# Altium footprint library Power.PcbLib: 8 footprints
Each footprint in its own frame and in the unit in brackets; x right, y up, seen from the top. Pads: shape width x height; smd on the part's side, far side on the other; paste and mask are expansions set on the pad; w line width, h text height; cw(c..) or ccw(c..) is an arc to the next point about the centre after c.
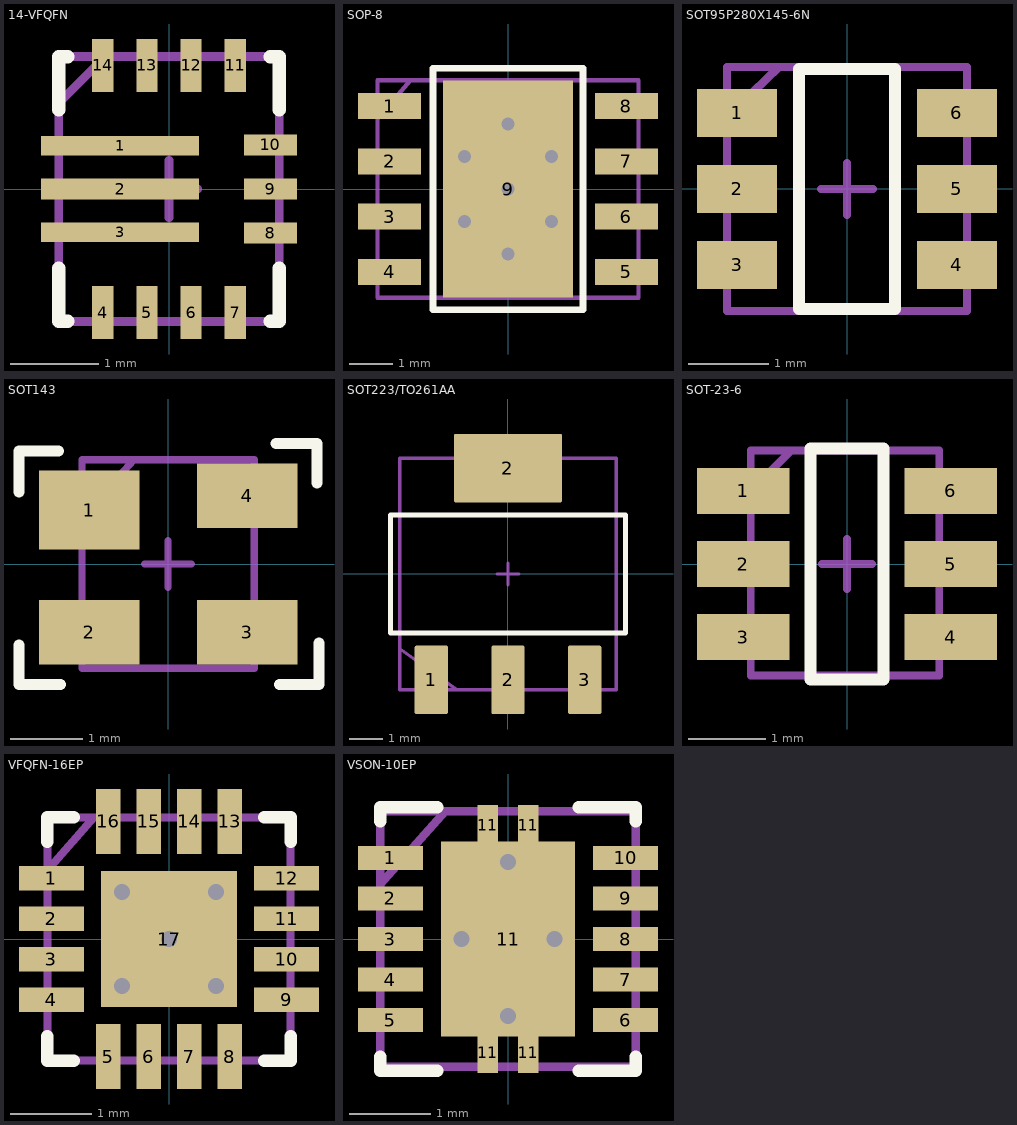
[diagram p0: the footprints below, top view; thin cyan lines are the x and y axes]

## 14-VFQFN [mm]
pads (14):
  rect 1.79x0.22 smd mask+0.05: 1(-0.555,0.49) 3(-0.555,-0.49)
  rect 1.79x0.24 smd mask+0.05: 2(-0.555,0)
  rect 0.24x0.6 smd mask+0.05: 4(-0.75,-1.4) 5(-0.25,-1.4) 6(0.25,-1.4) 7(0.75,-1.4) 11(0.75,1.4) 12(0.25,1.4) 13(-0.25,1.4) 14(-0.75,1.4)
  rect 0.6x0.24 smd mask+0.05: 8(1.15,-0.5) 9(1.15,0) 10(1.15,0.5)
Top Overlay:
  lines w0.153: -1.25,-0.9 -1.25,-1.5 -1.15,-1.5 ; -1.25,0.9 -1.25,1.5 -1.15,1.5 ; 1.15,-1.5 1.25,-1.5 1.25,-0.9 ; 1.15,1.5 1.25,1.5 1.25,0.9
  text "." at -1.947,0.428 h0.8
Top Assembly:
  lines w0.1: -1.25,0.975 -0.725,1.5 ; -1.25,-1.5 1.25,-1.5 1.25,1.5 -1.25,1.5 -1.25,-1.5
  text "'.Designator'" at -1.097,1.92 h0.8
Mechanical 15:
  lines w0.1: -0.325,0 0,0 ; 0,-0.325 0,0 ; 0,0.325 0,0 ; 0.325,0 0,0 ; -1.25,-1.5 1.25,-1.5 1.25,1.5 -1.25,1.5 -1.25,-1.5
3D body "TPS630250RNCT.STEP": height 0.99, standoff -0.01, extent -1.25,-1.5 1.25,1.5

## SOP-8 [mm] "TSOP, 8-Leads, Body 4,90x3,90mm, Pitch 1,27mm, Thermal Pad 4,00x2,00mm, IPC Medium Density"
height 1.35
pads (9):
  rect 1.45x0.6 smd: 1(-2.725,1.905) 2(-2.725,0.635) 3(-2.725,-0.635) 4(-2.725,-1.905) 5(2.725,-1.905) 6(2.725,-0.635) 7(2.725,0.635) 8(2.725,1.905)
  rect 3x5 smd: 9(0,0)
via 0,0 diameter 0.65 hole 0.3
via -1,-0.75 diameter 0.65 hole 0.3
via 1,-0.75 diameter 0.65 hole 0.3
via -1,0.75 diameter 0.65 hole 0.3
via 1,0.75 diameter 0.65 hole 0.3
via 0,1.5 diameter 0.65 hole 0.3
via 0,-1.5 diameter 0.65 hole 0.3
Top Overlay:
  lines w0.153: -1.725,-2.775 1.725,-2.775 1.725,2.775 -1.725,2.775 -1.725,-2.775
  text "." at -2.947,2.653 h0.8
Top Assembly:
  lines w0.1: -3,1.625 -2.25,2.5 ; -3,-2.5 -3,2.5 3,2.5 3,-2.5 -3,-2.5
  text "'.Designator'" at -2.847,2.92 h0.8
Mechanical 15:
  lines w0.1: -0.5,0 0.5,0 ; 0,-0.5 0,0.5 ; -3,-2.5 -3,2.5 3,2.5 3,-2.5 -3,-2.5
3D body "TSOP127P600X135_HS-9N.step": height 1.35, standoff 0, extent -3,-2.5 3,2.5

## SOT95P280X145-6N [mm] "SOT23, 6-Leads, Body 2,90x2,80mm, Pitch 0,95mm, IPC Medium Density"
height 1.45
pads (6):
  rect 1x0.6 smd: 1(-1.375,0.95) 2(-1.375,0) 3(-1.375,-0.95) 4(1.375,-0.95) 5(1.375,0) 6(1.375,0.95)
Top Overlay:
  lines w0.153: -0.6,-1.5 -0.6,1.5 0.6,1.5 0.6,-1.5 -0.6,-1.5
  text "." at -1.547,1.653 h0.8
Top Assembly:
  lines w0.1: -1.5,0.9 -0.85,1.525 ; -1.5,-1.525 -1.5,1.525 1.5,1.525 1.5,-1.525 -1.5,-1.525
  text "'.Designator'" at -1.347,1.945 h0.8
Mechanical 15:
  lines w0.1: -0.325,0 0,0 ; 0,-0.325 0,0 ; 0,0.325 0,0 ; 0.325,0 0,0 ; -1.5,-1.528 -1.5,1.526 1.5,1.526 1.5,-1.528 -1.5,-1.528
3D body "SOT95P280X145-6N.step": height 1.45, standoff 0, extent -1.499,-1.525 1.499,1.525

## SOT143 [mm]
pads (4):
  rect 1.4x1.1 smd: 1(-1.1,0.75)
  rect 1.4x0.9 smd: 2(-1.1,-0.95) 3(1.1,-0.95) 4(1.1,0.95)
Top Overlay:
  lines w0.153: -2.075,-1.125 -2.075,-1.675 -1.5,-1.675 ; -2.075,1 -2.075,1.575 -1.525,1.575 ; 1.5,1.675 2.075,1.675 2.075,1.125 ; 1.55,-1.675 2.1,-1.675 2.1,-1.1
  text "." at -2.022,1.928 h0.8
Top Assembly:
  lines w0.1: -1.2,0.65 -0.475,1.45 ; -1.2,-1.45 -1.2,1.45 1.2,1.45 1.2,-1.45 -1.2,-1.45
  text "'.Designator'" at -1.047,1.87 h0.8
Mechanical 15:
  lines w0.1: -0.325,0 0,0 ; 0,-0.325 0,0 ; 0,0.325 0,0 ; 0.325,0 0,0 ; -1.2,-1.45 -1.2,1.45 1.2,1.45 1.2,-1.45 -1.2,-1.45
3D body "User Library-sot143-2.STEP": height 1, standoff 0, extent -1.21,-1.46 1.21,1.46

## SOT223/TO261AA [mm]
pads (4):
  rrect10% 1x2.05 smd: 1(-2.3,-3.175) 2(0,-3.175) 3(2.3,-3.175)
  rrect5% 3.25x2.05 smd: 2(0,3.175)
Top Overlay:
  lines w0.153: -3.525,-1.775 3.525,-1.775 3.525,1.775 -3.525,1.775 -3.525,-1.775
  text "." at -3.622,-4.197 h0.8
Top Assembly:
  lines w0.1: -3.23,-2.257 -1.545,-3.468 ; -3.25,-3.475 3.25,-3.475 3.25,3.475 -3.25,3.475 -3.25,-3.475
  text "'.Designator'" at -3.097,3.895 h0.8
Mechanical 15:
  lines w0.1: -0.325,0 0,0 ; 0,-0.325 0,0 ; 0,0.325 0,0 ; 0.325,0 0,0 ; -3.25,-3.475 3.25,-3.475 3.25,3.475 -3.25,3.475 -3.25,-3.475
3D body "CircuitWorks-SOT-223.STEP": height 1.6, standoff -0.08, extent -3.25,-3.48 3.25,3.48

## SOT-23-6 [mm] "SOT23, 6-Leads, Body 2,90x2,80mm, Pitch 0,95mm, IPC Medium Density"
height 1.45
pads (6):
  rect 1.2x0.6 smd: 1(-1.35,0.95) 2(-1.35,0) 3(-1.35,-0.95) 4(1.35,-0.95) 5(1.35,0) 6(1.35,0.95)
Top Overlay:
  lines w0.153: -0.475,-1.5 0.475,-1.5 0.475,1.5 -0.475,1.5 -0.475,-1.5
  text "." at -1.547,1.628 h0.8
Top Assembly:
  lines w0.1: -1.25,0.95 -0.725,1.475 ; -1.25,-1.45 -1.25,1.475 1.2,1.475 1.2,-1.45 -1.25,-1.45
  text "'.Designator'" at -1.097,1.895 h0.8
Mechanical 15:
  lines w0.1: -0.325,0 0,0 ; 0,-0.325 0,0 ; 0,0.325 0,0 ; 0.325,0 0,0 ; -1.25,-1.45 -1.25,1.475 1.2,1.475 1.2,-1.45 -1.25,-1.45
3D body "User Library-SOT23-6-4.STEP": height 1, standoff -0.1, extent -1.24,-1.442 1.16,1.458

## VFQFN-16EP [mm]
pads (17):
  rect 0.8x0.3 smd: 1(-1.45,0.75) 2(-1.45,0.25) 3(-1.45,-0.25) 4(-1.45,-0.75) 9(1.45,-0.75) 10(1.45,-0.25) 11(1.45,0.25) 12(1.45,0.75)
  rect 0.3x0.8 smd: 5(-0.75,-1.45) 6(-0.25,-1.45) 7(0.25,-1.45) 8(0.75,-1.45) 13(0.75,1.45) 14(0.25,1.45) 15(-0.25,1.45) 16(-0.75,1.45)
  rect 1.68x1.68 smd: 17(0,0)
via 0.58,-0.58 diameter 0.5 hole 0.2
via 0.58,0.58 diameter 0.5 hole 0.2
via -0.58,0.58 diameter 0.5 hole 0.2
via -0.58,-0.58 diameter 0.5 hole 0.2
via 0,0 diameter 0.5 hole 0.2
Top Overlay:
  lines w0.153: -1.5,-1.2 -1.5,-1.5 -1.175,-1.5 ; -1.5,1.2 -1.5,1.5 -1.175,1.5 ; 1.175,-1.5 1.5,-1.5 1.5,-1.2 ; 1.175,1.5 1.5,1.5 1.5,1.2
  text "." at -1.972,1.303 h0.8
Top Assembly:
  lines w0.1: -1.5,0.85 -0.925,1.5 ; -1.5,-1.5 1.5,-1.5 1.5,1.5 -1.5,1.5 -1.5,-1.5
  text "'.Designator'" at -1.347,1.92 h0.8
Mechanical 15:
  lines w0.1: -0.325,0 0,0 ; 0,-0.325 0,0 ; 0,0.325 0,0 ; 0.325,0 0,0 ; -1.5,-1.5 -1.5,1.5 1.5,1.5 1.5,-1.5 -1.5,-1.5
3D body "TPS62097QWRGTRQ1.STEP": height 1, standoff 0, extent -1.5,-1.5 1.5,1.5

## VSON-10EP [mm]
pads (15):
  rect 0.8x0.3 smd: 1(-1.45,1) 2(-1.45,0.5) 3(-1.45,0) 4(-1.45,-0.5) 5(-1.45,-1) 6(1.45,-1) 7(1.45,-0.5) 8(1.45,0) 9(1.45,0.5) 10(1.45,1)
  rect 0.25x0.5 smd: 11(-0.25,-1.4) 11(-0.25,1.4) 11(0.25,-1.4) 11(0.25,1.4)
  rect 1.65x2.4 smd: 11(0,0)
via 0,-0.95 diameter 0.5 hole 0.2
via 0,0.95 diameter 0.5 hole 0.2
via -0.575,0 diameter 0.5 hole 0.2
via 0.575,0 diameter 0.5 hole 0.2
Top Overlay:
  lines w0.153: -1.575,-1.45 -1.575,-1.625 -0.875,-1.625 ; -1.575,1.45 -1.575,1.625 -0.875,1.625 ; 0.875,-1.625 1.575,-1.625 1.575,-1.45 ; 0.875,1.625 1.575,1.625 1.575,1.45
  text "." at -2.172,1.478 h0.8
Top Assembly:
  lines w0.1: -1.575,0.675 -0.775,1.575 ; -1.575,-1.575 1.575,-1.575 1.575,1.575 -1.575,1.575 -1.575,-1.575
  text "'.Designator'" at -1.422,1.995 h0.8
Mechanical 15:
  lines w0.1: -0.325,0 0,0 ; 0,-0.325 0,0 ; 0,0.325 0,0 ; 0.325,0 0,0 ; -1.575,-1.575 1.575,-1.575 1.575,1.575 -1.575,1.575 -1.575,-1.575
3D body "User Library-LM5166YDRC_VSON-DRC10-1.STEP": height 1, standoff 0, extent -1.56,-1.562 1.56,1.562